# Altium footprint library Coupled Indctor.PcbLib: 1 footprints
Each footprint in its own frame and in the unit in brackets; x right, y up, seen from the top. Pads: shape width x height; smd on the part's side, far side on the other; paste and mask are expansions set on the pad; w line width, h text height; cw(c..) or ccw(c..) is an arc to the next point about the centre after c.
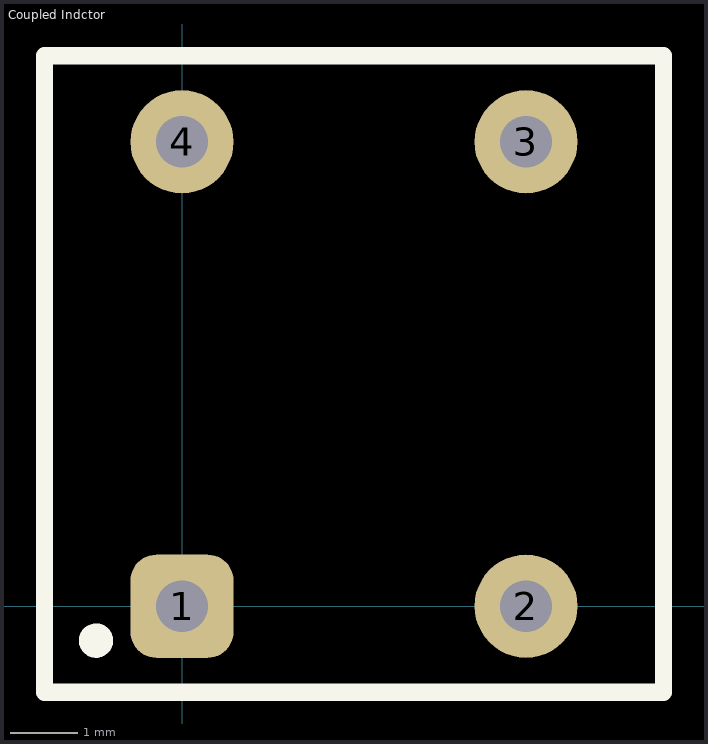
[diagram p0: the footprint, top view; thin cyan lines are the x and y axes]

## Coupled Indctor [mil] "Coupled Indctor"
pads (4):
  rrect50% 60x60 hole 30: 1(0,0)
  round 60 hole 30: 2(200,0) 3(200,270) 4(0,270)
Top Overlay:
  circle w10: c-50,-20 r5
  lines w10: -80,-50 -80,320 280,320 280,-50 -80,-50
3D body: height 354.33, standoff 236.22, extent -80,50 280,225
3D body: height 236.22, standoff 0, extent -80,-50 280,320